# Altium schematic symbol library LED-0603.SchLib: 1 symbol
Pins are listed as number, name and electrical type; pins without a type are passive.

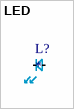
[diagram p0: symbol LED]

## LED
designator L?
footprint 0603_LED_S1
pins: N 2, P 1